# Altium footprint library FUSC6127X294N.PcbLib: 1 footprints
Each footprint in its own frame and in the unit in brackets; x right, y up, seen from the top. Pads: shape width x height; smd on the part's side, far side on the other; paste and mask are expansions set on the pad; w line width, h text height; cw(c..) or ccw(c..) is an arc to the next point about the centre after c.
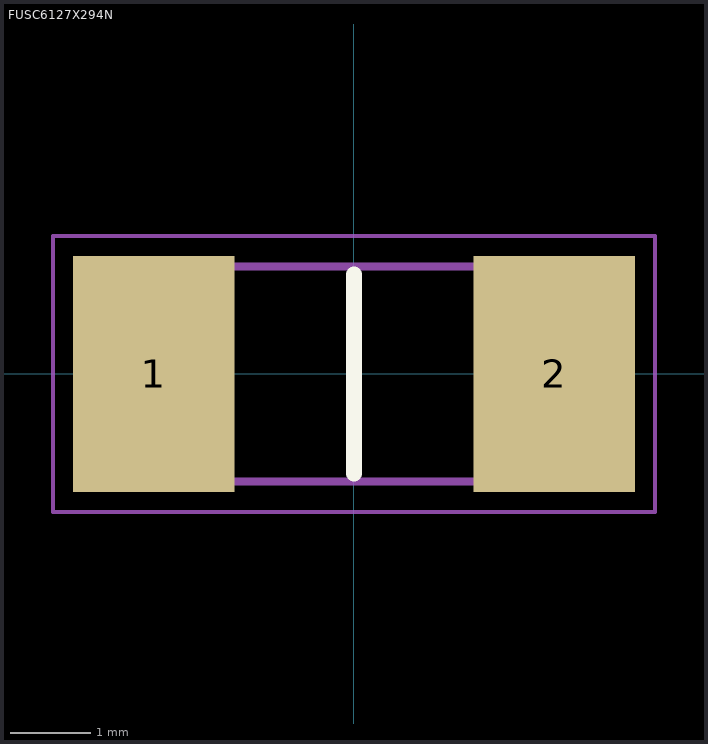
[diagram p0: the footprint, top view; thin cyan lines are the x and y axes]

## FUSC6127X294N [mm]
pads (2):
  rect 2.02x2.95 smd: 1(-2.5,0) 2(2.5,0)
Top Overlay:
  lines w0.2: 0,-1.245 0,1.245
Mechanical 15:
  lines w0.1: -3.05,-1.345 3.05,-1.345 3.05,1.345 -3.05,1.345 -3.05,-1.345
Mechanical 20:
  lines w0.05: -3.76,-1.725 3.76,-1.725 3.76,1.725 -3.76,1.725 -3.76,-1.725